# Altium schematic symbol library TB007-508-12BE.SchLib: 1 symbol
Pins are listed as number, name and electrical type; pins without a type are passive.

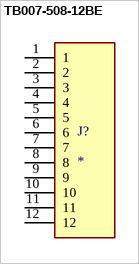
[diagram p0: symbol TB007-508-12BE]

## TB007-508-12BE
designator J?
MP: TB007-508-12BE; MF: {'manufacturer': u'CUI Devices'}; Package: None; Availability: Unavailable; Value: *; Price: None
footprint CUI_TB007-508-12BE
pins: 1, 2, 3, 4, 5, 6, 7, 8, 9, 10, 11, 12